# Altium schematic symbol library SMA_CONNECTOR.SchLib: 1 symbol
Pins are listed as number, name and electrical type; pins without a type are passive.

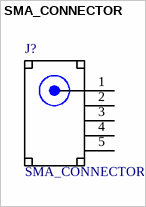
[diagram p0: symbol SMA_CONNECTOR]

## SMA_CONNECTOR
designator J?
CONNECTOR, SMA, ANTENNA; SVHC: No SVHC _19-Dec-2012_; For Use With: Antenna; Kit Contents: SMA Connector; MF: LPRS; SnapEDA_Link: https://www.snapeda.com/parts/SMA%20CONNECTOR/LPRS/view-part/?ref=snap; Availability: Good; MP: SMA CONNECTOR; Package: None; Price: 1.03 USD; Value: *
footprint LPRS_SMA_CONNECTOR
pins: 1 SIG, 2 GND, 3 GND, 4 GND, 5 GND